# EAGLE library part L298 (library magzor)
L298 dual H-bridge motor driver, 5-46V, max. 4A
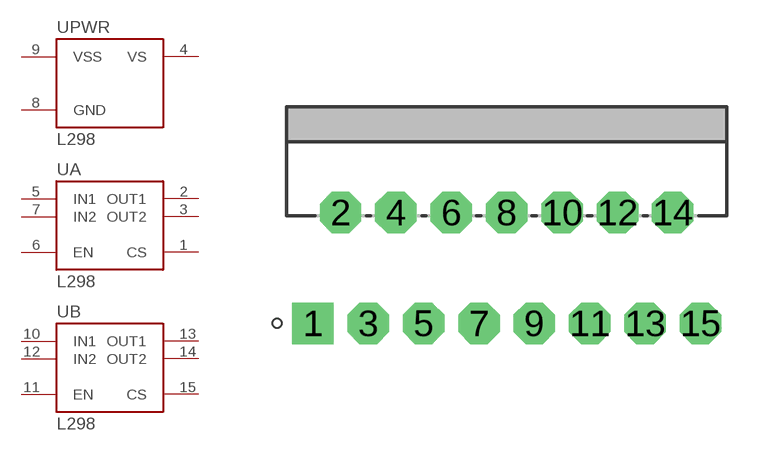
[diagram p24: symbol with the pads of MULTIWATT15V; footprint MULTIWATT15V]

Designator prefix U; gates PWR=L298-MAIN A=L298-BLOCK B=L298-BLOCK

## L298N  [MULTIWATT15V]
1  A:CS
2  A:OUT1
3  A:OUT2
4  PWR:VS
5  A:IN1
6  A:EN
7  A:IN2
8  PWR:GND
9  PWR:VSS
10  B:IN1
11  B:EN
12  B:IN2
13  B:OUT1
14  B:OUT2
15  B:CS

## Footprint MULTIWATT15V (pad centres in mm)
drill 1.1 pad 1.9 square: 1 -8.95,-2.39
drill 1.1 pad 1.9 octagon: 2 -7.68,2.69; 3 -6.41,-2.39; 4 -5.14,2.69; 5 -3.87,-2.39; 6 -2.6,2.69; 7 -1.33,-2.39; 8 -0.06,2.69; 9 1.21,-2.39; 10 2.48,2.69; 11 3.75,-2.39; 12 5.02,2.69; 13 6.29,-2.39; 14 7.56,2.69; 15 8.83,-2.39